# Altium footprint library ATLAS_XP2V5_sredjen_bom.PcbLib: 50 footprints (part 1 of 4)
Each footprint in its own frame and in the unit in brackets; x right, y up, seen from the top. Pads: shape width x height; smd on the part's side, far side on the other; paste and mask are expansions set on the pad; w line width, h text height; cw(c..) or ccw(c..) is an arc to the next point about the centre after c.
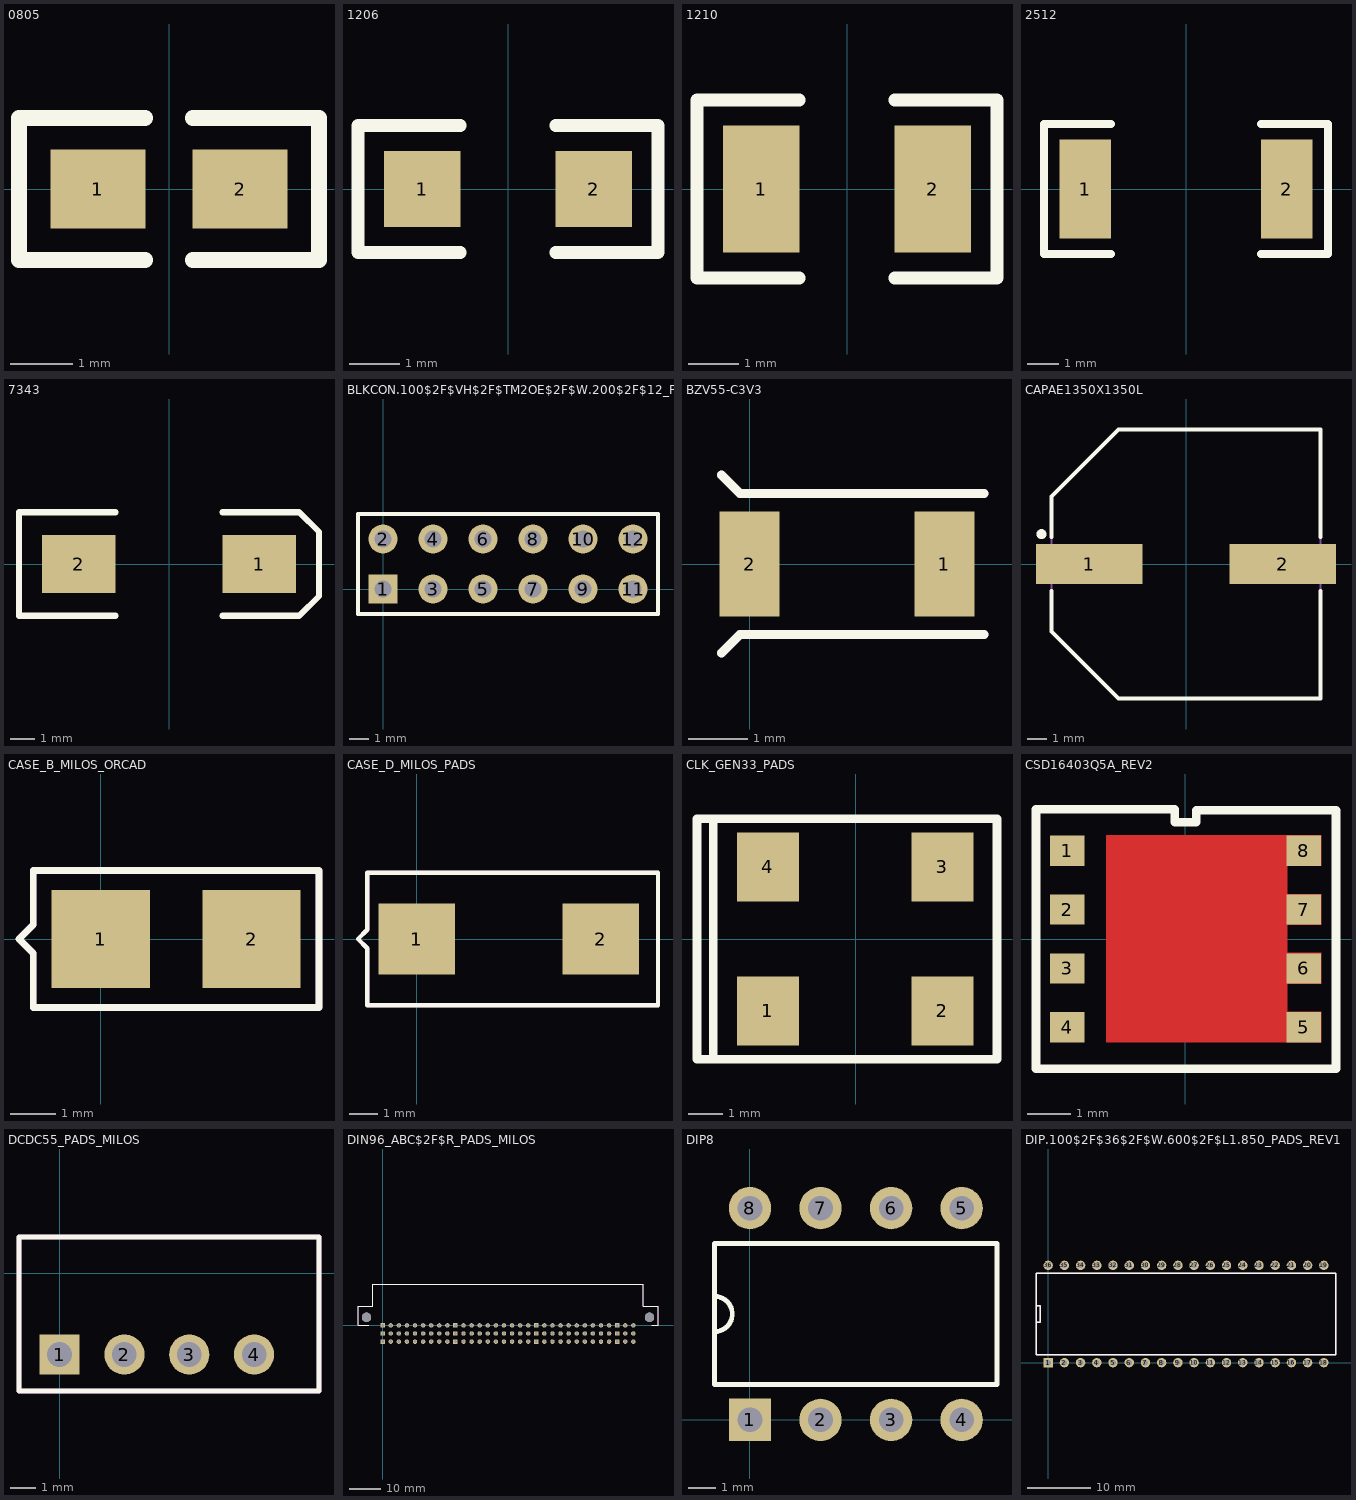
[diagram p0: the footprints below, top view; thin cyan lines are the x and y axes]

## 0805 [mil]
pads (2):
  rect 60x50 smd: 1(-45,0) 2(45,0)
Top Overlay:
  lines w10: -15,-45 -95,-45 -95,45 -15,45 ; 15,-45 95,-45 95,45 15,45
Mechanical 1:
  text "C9" at -82.23,13.59 h25.5

## 1206 [mil]
pads (2):
  rect 60x60 smd: 1(-67.5,0) 2(67.5,0)
Top Overlay:
  lines w10: -37.5,-50 -118,-50 -118,50 -37.5,50 ; 37.5,-50 118,-50 118,50 37.5,50

## 1210 [mil]
pads (2):
  rect 60x100 smd: 1(-67.5,0) 2(67.5,0)
Top Overlay:
  lines w10: -37.5,-70 -118,-70 -118,70 -37.5,70 ; 37.5,-70 118,-70 118,70 37.5,70

## 2512 [mil]
pads (2):
  rect 65x125 smd: 1(-127.5,0) 2(127.5,0)
Top Overlay:
  lines w10: -95,-82.5 -180,-82.5 -180,82.5 -95,82.5 ; 95,-82.5 180,-82.5 180,82.5 95,82.5
Mechanical 1:
  text "R38" at -41.65,-125.42 h25.5

## 7343 [mil]
pads (2):
  rect 120x95 smd: 1(147.5,0) 2(-147.5,0)
Top Overlay:
  lines w10: -87.5,-84.5 -245,-84.5 -245,84.5 -87.5,84.5 ; 87.5,-84.5 212.5,-84.5 245,-52.5 245,52.5 212.5,84.5 87.5,84.5

## BLKCON.100$2F$VH$2F$TM2OE$2F$W.200$2F$12_PADS_REV2 [mil]
pads (12):
  rect 58x58 / inner round 58 / far side rect 58x58 hole 34: 1(0,0)
  round 58 hole 34: 2(0,100) 3(100,0) 4(100,100) 5(200,0) 6(200,100) 7(300,0) 8(300,100) 9(400,0) 10(400,100) 11(500,0) 12(500,100)
Top Layer:
  text "JP2" at -69.45,-167.95 h29
Top Overlay:
  lines w8: -50,-50 550,-50 550,150 -50,150 -50,-50
Mechanical 1:
  lines w8: -50,-50 550,-50 550,150 -50,150 -50,-50
  text "JP2" at 568.75,87.5 h25.5

## BZV55-C3V3 [mil]
pads (2):
  rect 40x70 smd paste-2: 1(130,0) 2(0,0)
Top Overlay:
  lines w6: -18.75,-59.37 -6.25,-46.87 156.25,-46.87 ; -18.75,59.37 -6.25,46.87 156.25,46.87
Mechanical 1:
  lines w6: -18.75,-59.37 -6.25,-46.87 156.25,-46.87 ; -18.75,59.37 -6.25,46.87 156.25,46.87
  text "D4" at 43.75,-93.75 h25.5

## CAPAE1350X1350L [mm]
height 13.5
pads (2):
  rect 5.35x2 smd: 1(-4.85,0) 2(4.85,0)
Top Layer:
  text "C53" at -9.424,1.191 h0.75
Top Overlay:
  circle w0.25: c-7.25,1.5 r0.125
  lines w0.2: -6.75,-1.35 -6.75,-3.375 -3.375,-6.75 6.75,-6.75 6.75,-1.35 ; -6.75,1.35 -6.75,3.375 -3.375,6.75 6.75,6.75 6.75,1.35
Mechanical 1:
  lines w0.1: -6.75,-3.375 -6.75,3.375 -3.375,6.75 6.75,6.75 6.75,-6.75 -3.375,-6.75 -6.75,-3.375
  text "C53" at -0.903,-0.4 h0.65

## CASE_B_MILOS_ORCAD [mil]
pads (2):
  rect 86x86 smd: 1(0,0) 2(132,0)
Top Overlay:
  lines w6: -71.5,0 -59,12.5 -59,60 191,60 191,-60 -59,-60 -59,-12.5 -71.5,0
Mechanical 1:
  lines w6: -71.5,0 -59,12.5 -59,60 191,60 191,-60 -59,-60 -59,-12.5 -71.5,0
  text "C69" at 241.64,-43.12 h25.5

## CASE_D_MILOS_PADS [mil]
pads (2):
  rect 104x96 smd: 1(0,0) 2(250,0)
Top Overlay:
  lines w6: -80,0 -67.5,-12.5 -67.5,-90 327.5,-90 327.5,90 -67.5,90 -67.5,12.5 -80,0
Mechanical 1:
  lines w6: -80,0 -67.5,-12.5 -67.5,-90 327.5,-90 327.5,90 -67.5,90 -67.5,12.5 -80,0
  text "C70" at -64.45,106.63 h28

## CLK_GEN33_PADS [mil]
pads (4):
  rect 71x79 smd: 1(-100.39,-82.28) 2(99.61,-82.28) 3(99.61,82.72) 4(-100.39,82.72)
Top Layer:
  text "U12" at -200,-50 h25.5
Top Overlay:
  lines w10: -162.89,-137.8 -162.89,137.8 ; -181.64,-137.8 162.11,-137.8 162.11,137.8 -181.64,137.8 -181.64,-137.8
Mechanical 1:
  text "U12" at -200,-112.5 h25.5

## CSD16403Q5A_REV2 [mm]
pads (8):
  rect 0.8x0.7 smd: 1(-2.752,2.055) 2(-2.752,0.685) 3(-2.752,-0.685) 4(-2.752,-2.055) 5(2.752,-2.055) 6(2.752,-0.685) 7(2.752,0.685) 8(2.752,2.055)
Top Layer:
  region: 3.157,-2.408 -1.847,-2.408 -1.847,2.418 3.157,2.418 3.157,1.707 2.37,1.707 2.37,1.046 3.157,1.046 3.157,0.335 2.37,0.335 2.37,-0.325 3.157,-0.325 3.157,-1.036 2.37,-1.036 2.37,-1.697 3.157,-1.697
Top Overlay:
  lines w0.2: -3.48,-3.023 -3.48,3.023 -0.25,3.023 -0.25,2.718 0.25,2.718 0.25,2.997 3.505,2.997 3.505,-3.023 -3.48,-3.023
Top Paste:
  region: 3.157,-2.408 -1.847,-2.408 -1.847,2.418 3.157,2.418 3.157,1.707 2.37,1.707 2.37,1.046 3.157,1.046 3.157,0.335 2.37,0.335 2.37,-0.325 3.157,-0.325 3.157,-1.036 2.37,-1.036 2.37,-1.697 3.157,-1.697
Top Solder:
  region: 3.157,-2.408 -1.847,-2.408 -1.847,2.418 3.157,2.418 3.157,1.707 2.37,1.707 2.37,1.046 3.157,1.046 3.157,0.335 2.37,0.335 2.37,-0.325 3.157,-0.325 3.157,-1.036 2.37,-1.036 2.37,-1.697 3.157,-1.697
Mechanical 1:
  text "M2" at 3.969,-3.175 h0.65

## DCDC55_PADS_MILOS [mil]
pads (4):
  rect 62x62 / inner round 62 / far side rect 62x62 hole 38: 1(0,-125)
  round 62 hole 38: 2(100,-125) 3(200,-125) 4(300,-125)
Top Overlay:
  lines w8: -62.5,-181.25 -62.5,56.25 400,56.25 400,-181.25 -62.5,-181.25
Mechanical 1:
  lines w8: -62.5,-181.25 -62.5,56.25 400,56.25 400,-181.25 -62.5,-181.25
  text "US1" at 388.55,72.07 h25.5

## DIN96_ABC$2F$R_PADS_MILOS [mil]
pads (98):
  rect 55x55 / inner round 55 / far side rect 55x55 hole 34: A1(0,0) A10(900,0) A20(1900,0) A30(2900,0) B1(0,-100) B10(900,-100) B20(1900,-100) B30(2900,-100) C1(0,-200) C10(900,-200) C20(1900,-200) C30(2900,-200)
  round 55 hole 34: A2(100,0) A3(200,0) A4(300,0) A5(400,0) A6(500,0) A7(600,0) A8(700,0) A9(800,0) A11(1000,0) A12(1100,0) A13(1200,0) A14(1300,0) A15(1400,0) A16(1500,0) A17(1600,0) A18(1700,0) A19(1800,0) A21(2000,0) A22(2100,0) A23(2200,0) A24(2300,0) A25(2400,0) A26(2500,0) A27(2600,0) A28(2700,0) A29(2800,0) A31(3000,0) A32(3100,0) B2(100,-100) B3(200,-100) B4(300,-100) B5(400,-100) B6(500,-100) B7(600,-100) B8(700,-100) B9(800,-100) B11(1000,-100) B12(1100,-100) B13(1200,-100) B14(1300,-100) B15(1400,-100) B16(1500,-100) B17(1600,-100) B18(1700,-100) B19(1800,-100) B21(2000,-100) B22(2100,-100) B23(2200,-100) B24(2300,-100) B25(2400,-100) B26(2500,-100) B27(2600,-100) B28(2700,-100) B29(2800,-100) B31(3000,-100) B32(3100,-100) C2(100,-200) C3(200,-200) C4(300,-200) C5(400,-200) C6(500,-200) C7(600,-200) C8(700,-200) C9(800,-200) C11(1000,-200) C12(1100,-200) C13(1200,-200) C14(1300,-200) C15(1400,-200) C16(1500,-200) C17(1600,-200) C18(1700,-200) C19(1800,-200) C21(2000,-200) C22(2100,-200) C23(2200,-200) C24(2300,-200) C25(2400,-200) C26(2500,-200) C27(2600,-200) C28(2700,-200) C29(2800,-200) C31(3000,-200) C32(3100,-200)
  round 116 hole 116: HOLE1(-200,100) HOLE2(3300,100)
Top Overlay:
  lines w8: -175,0 -305,0 -305,240 -125,240 -125,510 3225,510 3225,240 3405,240 3405,0 3325,0
Mechanical 1:
  lines w8: -175,0 -305,0 -305,240 -125,240 -125,510 3225,510 3225,240 3405,240 3405,0 3325,0
  text "J17" at 1488.55,174.57 h29

## DIP8 [mil]
pads (8):
  rect 60x60 / inner round 60 / far side rect 60x60 hole 35: 1(0,0)
  round 60 hole 35: 2(100,0) 3(200,0) 4(300,0) 5(300,300) 6(200,300) 7(100,300) 8(0,300)
Top Overlay:
  lines w7: -50,125 ccw(c-50,150) -50,175 ; -50,50 -50,250 350,250 350,50 -50,50
Mechanical 1:
  text "U20" at 83.29,28.37 h25.5

## DIP.100$2F$36$2F$W.600$2F$L1.850_PADS_REV1 [mil]
pads (36):
  rect 58x58 / inner round 58 / far side rect 58x58 hole 34: 1(0,0)
  round 58 hole 34: 2(100,0) 3(200,0) 4(300,0) 5(400,0) 6(500,0) 7(600,0) 8(700,0) 9(800,0) 10(900,0) 11(1000,0) 12(1100,0) 13(1200,0) 14(1300,0) 15(1400,0) 16(1500,0) 17(1600,0) 18(1700,0) 19(1700,600) 20(1600,600) 21(1500,600) 22(1400,600) 23(1300,600) 24(1200,600) 25(1100,600) 26(1000,600) 27(900,600) 28(800,600) 29(700,600) 30(600,600) 31(500,600) 32(400,600) 33(300,600) 34(200,600) 35(100,600) 36(0,600)
Top Overlay:
  lines w8: -75,250 -75,350 ; -75,250 -75,50 1775,50 1775,550 -75,550 -75,350 ; -75,250 -50,250 -50,350 -75,350
Mechanical 1:
  lines w8: -75,250 -75,350 ; -75,250 -75,50 1775,50 1775,550 -75,550 -75,350 ; -75,250 -50,250 -50,350 -75,350
  text "U15" at -125,643.75 h25.5